# EAGLE library part W25Q128JVSIQ_TR (library IntegratedLib)
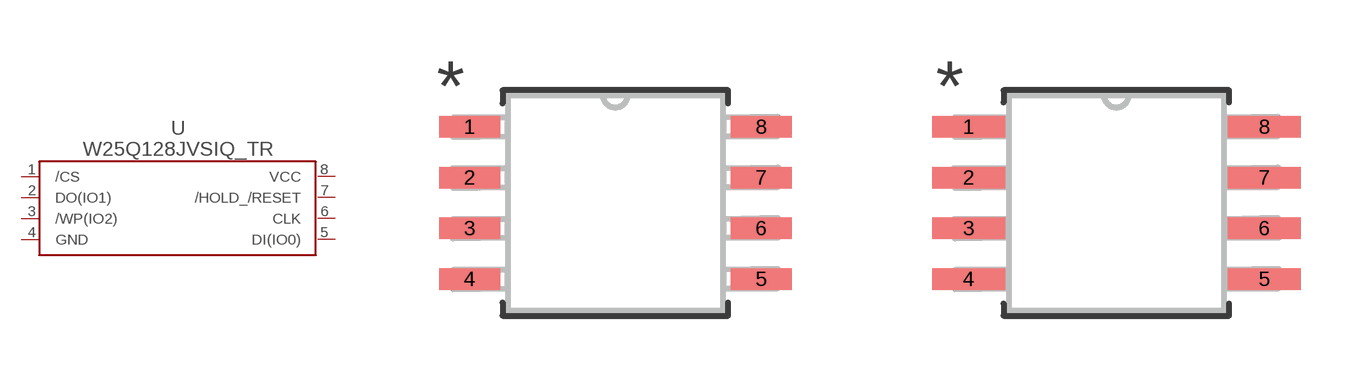
[diagram p49: symbol with the pads of SOIC_208MIL_WIN; footprints SOIC_208MIL_WIN, SOIC_208MIL_WIN-M]

Designator prefix U

## W25Q128JVSIQ_TR (BUILT_BY: EMA_Cory; COPYRIGHT: Copyright (C) 2018 Accelerated Designs. All rights reserved; DATASHEET: https://www.winbond.com/resource-files/w25q128jv%20revf%2003272018%20plus.pdf; MANUFACTURER_PART_NUMBER: W25Q128JVSIQ TR; SOURCELIBRARY: Winbond_2020-02-06; VENDOR: Winbond)  [SOIC_208MIL_WIN]
1  /CS  in
2  DO(IO1)
3  /WP(IO2)
4  GND  pas
5  DI(IO0)
6  CLK  in
7  /HOLD_/RESET
8  VCC  pwr

## W25Q128JVSIQ_TRSOIC_208MIL_WIN-M (BUILT_BY: EMA_Cory; COPYRIGHT: Copyright (C) 2018 Accelerated Designs. All rights reserved; DATASHEET: https://www.winbond.com/resource-files/w25q128jv%20revf%2003272018%20plus.pdf; MANUFACTURER_PART_NUMBER: W25Q128JVSIQ TR; SOURCELIBRARY: Winbond_2020-02-06; VENDOR: Winbond)  [SOIC_208MIL_WIN-M]
Pads as for SOIC_208MIL_WIN

## W25Q128JVSIQ_TRSOIC_208MIL_WIN-L (BUILT_BY: EMA_Cory; COPYRIGHT: Copyright (C) 2018 Accelerated Designs. All rights reserved; DATASHEET: https://www.winbond.com/resource-files/w25q128jv%20revf%2003272018%20plus.pdf; MANUFACTURER_PART_NUMBER: W25Q128JVSIQ TR; SOURCELIBRARY: Winbond_2020-02-06; VENDOR: Winbond)  [SOIC_208MIL_WIN-L]
Pads as for SOIC_208MIL_WIN

## Footprint SOIC_208MIL_WIN (pad centres in mm)
smd 1.524 x 0.533: 1 -3.645,1.905; 2 -3.645,0.635; 3 -3.645,-0.635; 4 -3.645,-1.905; 5 3.645,-1.905; 6 3.645,-0.635; 7 3.645,0.635; 8 3.645,1.905

## Footprint SOIC_208MIL_WIN-M (pad centres in mm)
smd 1.829 x 0.533: 1 -3.696,1.905; 2 -3.696,0.635; 3 -3.696,-0.635; 4 -3.696,-1.905; 5 3.696,-1.905; 6 3.696,-0.635; 7 3.696,0.635; 8 3.696,1.905

## Footprint SOIC_208MIL_WIN-L (pad centres in mm)
smd 1.219 x 0.483: 1 -3.594,1.905; 2 -3.594,0.635; 3 -3.594,-0.635; 4 -3.594,-1.905; 5 3.594,-1.905; 6 3.594,-0.635; 7 3.594,0.635; 8 3.594,1.905